# EAGLE library part SO08N (library ic-packages)
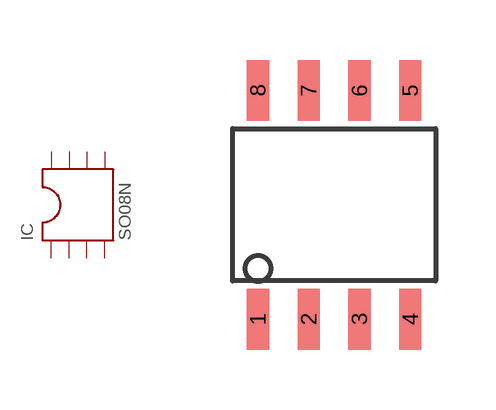
[diagram p6: symbol with the pads of SO08N; footprint SO08N]

Designator prefix IC

## SO08N  [SO08N]
1  P$1
2  P$2
3  P$3
4  P$4
5  P$5
6  P$6
7  P$7
8  P$8

## Footprint SO08N (pad centres in mm)
smd 0.559 x 1.524: 1 -1.905,-2.223; 2 -0.635,-2.223; 3 0.635,-2.223; 4 1.905,-2.223; 5 1.905,3.493; 6 0.635,3.493; 7 -0.635,3.493; 8 -1.905,3.493